# EAGLE library part TEXAS_INSTRUMENTS-PROTECTION_CONTROLLER-LM5060Q1MMX/NOPB (library Module_Regulators)
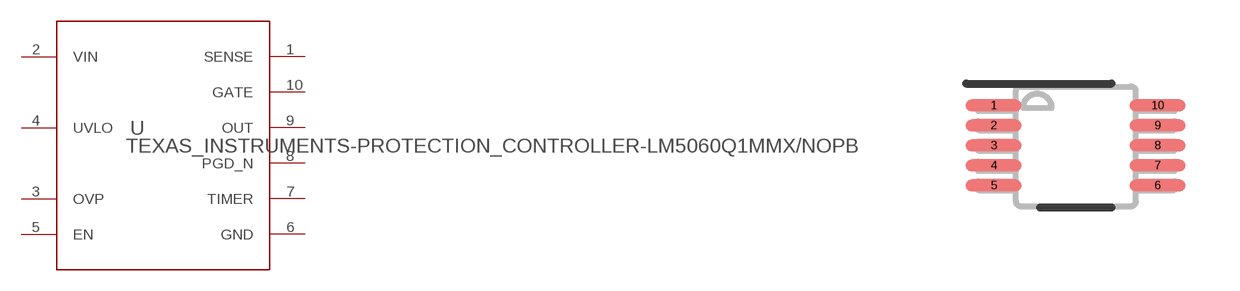
[diagram p16: symbol with the pads of TEXAS_INSTRUMENTS-PROTECTION_CONTROLLER-LM5060Q1MMX/NOPB; footprint TEXAS_INSTRUMENTS-PROTECTION_CONTROLLER-LM5060Q1MMX/NOPB]

Designator prefix U

## TEXAS_INSTRUMENTS-PROTECTION_CONTROLLER-LM5060Q1MMX/NOPB (ALTERNATEPARTNUMBER: LM5060Q1MMNOPB; APPLICATION_BUILDNUMBER: *; COMPTYPE: IC; MANUFACTURER: Texas Instruments; MOUNTTYPE: SMT; PACKAGEREFERENCE: DGS0010A; PARTNUMBER: LM5060Q1MMXNOPB; PIN_COUNT: 10; REFDES: RefDes; ROHS: Y; TYPE: TYPE; VALUE: Value)  [TEXAS_INSTRUMENTS-PROTECTION_CONTROLLER-LM5060Q1MMX/NOPB]
1  SENSE  in
2  VIN  pwr
3  OVP  in
4  UVLO  in
5  EN  in
6  GND  pwr
7  TIMER  in
8  PGD_N  oc
9  OUT  out
10  GATE  out

## Footprint TEXAS_INSTRUMENTS-PROTECTION_CONTROLLER-LM5060Q1MMX/NOPB (pad centres in mm)
smd 1.4 x 0.3: 1 -2.05,1; 2 -2.05,0.5; 3 -2.05,0; 4 -2.05,-0.5; 5 -2.05,-1; 6 2.05,-1; 7 2.05,-0.5; 8 2.05,0; 9 2.05,0.5; 10 2.05,1